# Altium schematic symbol library Different Header Pin Numbers.SchLib: 4 symbols
Pins are listed as number, name and electrical type; pins without a type are passive.

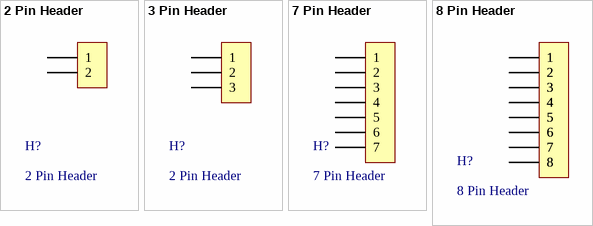
[diagram p0: symbols 2 Pin Header to 8 Pin Header]

## 2 Pin Header
designator H?  (no BOM)
footprint 2 Pin Header
pins: 1, 2

## 3 Pin Header
designator H?, comment 2 Pin Header  (no BOM)
footprint 3 Pin Header
pins: 1, 2, 3

## 7 Pin Header
designator H?  (no BOM)
footprint 7 Pin Header
pins: 1, 2, 3, 4, 5, 6, 7

## 8 Pin Header
designator H?  (no BOM)
footprint 8 Pin Header
pins: 1, 1, 2, 2, 3, 3, 4, 4, 5, 5, 6, 6, 7, 7, 8, 8